# Altium footprint library CAP508.PcbLib: 1 footprints
Each footprint in its own frame and in the unit in brackets; x right, y up, seen from the top. Pads: shape width x height; smd on the part's side, far side on the other; paste and mask are expansions set on the pad; w line width, h text height; cw(c..) or ccw(c..) is an arc to the next point about the centre after c.
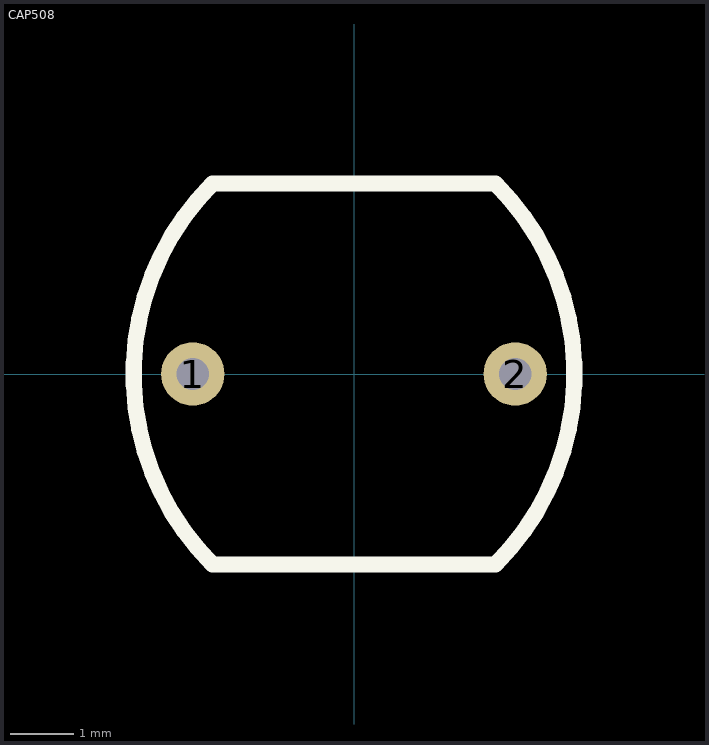
[diagram p0: the footprint, top view; thin cyan lines are the x and y axes]

## CAP508 [mm]
pads (2):
  round 1 hole 0.51: 1(-2.54,0) 2(2.54,0)
Top Overlay:
  lines w0.254: -2.23,-3 cw(c0.77,0) -2.23,3 2.23,3 cw(c-0.77,0) 2.23,-3 -2.23,-3